# EAGLE library part TRS80_SLOT (library 396_conn)
PIN HEADER
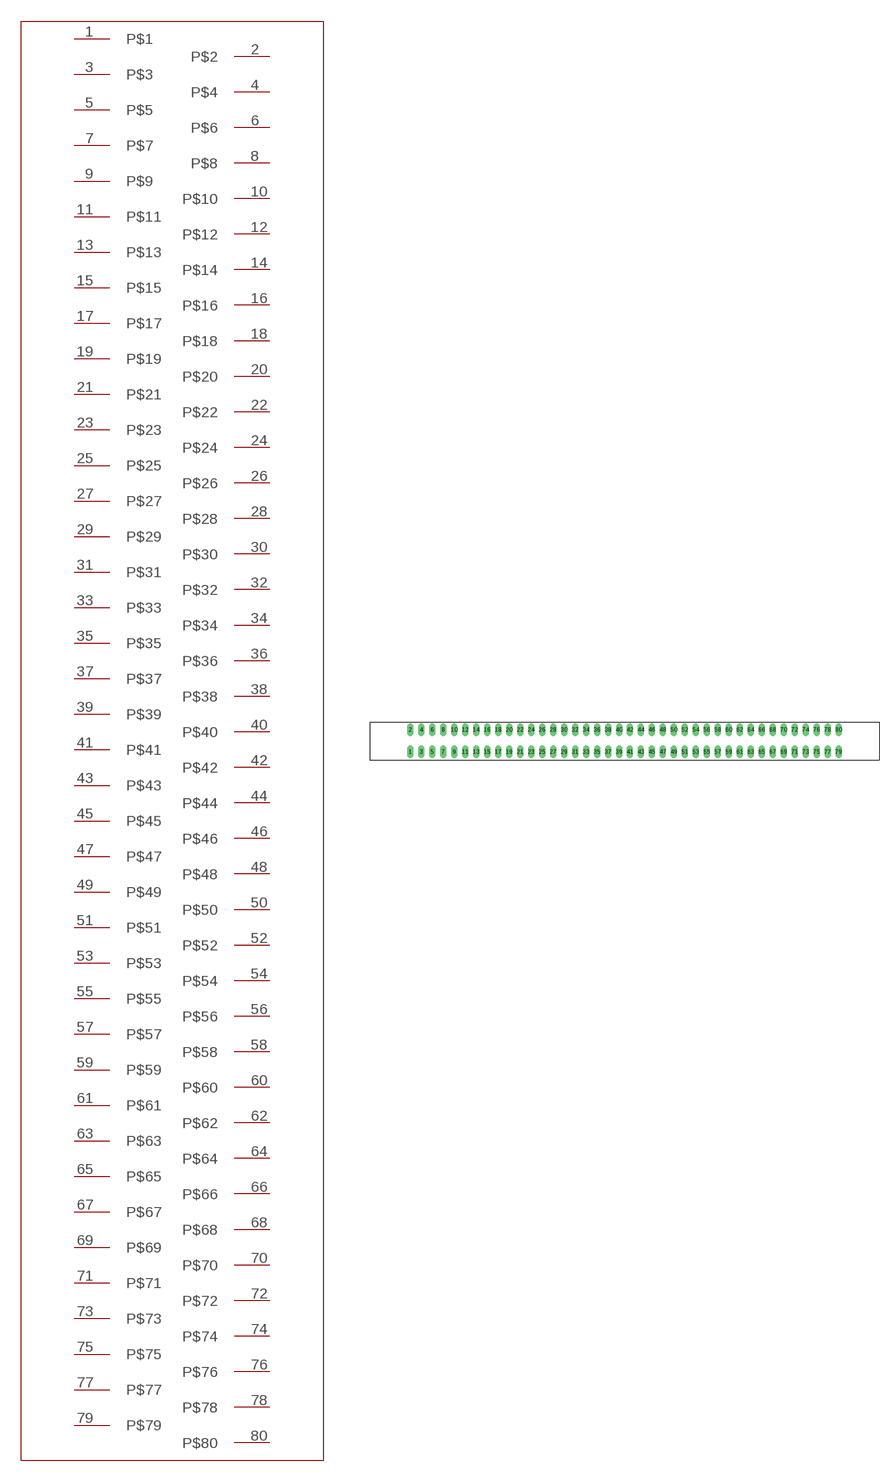
[diagram p4: symbol with the pads of TRS80_0.125IN; footprint TRS80_0.125IN]

Designator prefix JP

## TRS80_SLOT  [TRS80_0.125IN]
1  P$1
2  P$2
3  P$3
4  P$4
5  P$5
6  P$6
7  P$7
8  P$8
9  P$9
10  P$10
11  P$11
12  P$12
13  P$13
14  P$14
15  P$15
16  P$16
17  P$17
18  P$18
19  P$19
20  P$20
21  P$21
22  P$22
23  P$23
24  P$24
25  P$25
26  P$26
27  P$27
28  P$28
29  P$29
30  P$30
31  P$31
32  P$32
33  P$33
34  P$34
35  P$35
36  P$36
37  P$37
38  P$38
39  P$39
40  P$40
41  P$41
42  P$42
43  P$43
44  P$44
45  P$45
46  P$46
47  P$47
48  P$48
49  P$49
50  P$50
51  P$51
52  P$52
53  P$53
54  P$54
55  P$55
56  P$56
57  P$57
58  P$58
59  P$59
60  P$60
61  P$61
62  P$62
63  P$63
64  P$64
65  P$65
66  P$66
67  P$67
68  P$68
69  P$69
70  P$70
71  P$71
72  P$72
73  P$73
74  P$74
75  P$75
76  P$76
77  P$77
78  P$78
79  P$79
80  P$80

## Footprint TRS80_0.125IN (pad centres in mm)
drill 1.27 pad 1.778 long: 1 0,0; 2 0,6.401; 3 3.175,0; 4 3.175,6.401; 5 6.35,0; 6 6.35,6.401; 7 9.525,0; 8 9.525,6.401; 9 12.7,0; 10 12.7,6.401; 11 15.875,0; 12 15.875,6.401; 13 19.05,0; 14 19.05,6.401; 15 22.225,0; 16 22.225,6.401; 17 25.4,0; 18 25.4,6.401; 19 28.575,0; 20 28.575,6.401; 21 31.75,0; 22 31.75,6.401; 23 34.925,0; 24 34.925,6.401; 25 38.1,0; 26 38.1,6.401; 27 41.275,0; 28 41.275,6.401; 29 44.45,0; 30 44.45,6.401; 31 47.625,0; 32 47.625,6.401; 33 50.8,0; 34 50.8,6.401; 35 53.975,0; 36 53.975,6.401; 37 57.15,0; 38 57.15,6.401; 39 60.325,0; 40 60.325,6.401; 41 63.5,0; 42 63.5,6.401; 43 66.675,0; 44 66.675,6.401; 45 69.85,0; 46 69.85,6.401; 47 73.025,0; 48 73.025,6.401; 49 76.2,0; 50 76.2,6.401; 51 79.375,0; 52 79.375,6.401; 53 82.55,0; 54 82.55,6.401; 55 85.725,0; 56 85.725,6.401; 57 88.9,0; 58 88.9,6.401; 59 92.075,0; 60 92.075,6.401; 61 95.25,0; 62 95.25,6.401; 63 98.425,0; 64 98.425,6.401; 65 101.6,0; 66 101.6,6.401; 67 104.775,0; 68 104.775,6.401; 69 107.95,0; 70 107.95,6.401; 71 111.125,0; 72 111.125,6.401; 73 114.3,0; 74 114.3,6.401; 75 117.475,0; 76 117.475,6.401; 77 120.65,0; 78 120.65,6.401; 79 123.825,0; 80 123.825,6.401